# EAGLE library part 1554ИР24 (library std-logic-1554series)
АЕЯР.431200.182-12 ТУ 1554ИР24 - Восьмиразрядный двунаправленный сдвиговый регистр с параллельным вводом-выводом, последовательным вводом информации, асинхронным сбросом и тремя состояниями на выходе. Изготовитель: ОАО "ИНТЕГРАЛ", г. Минск, р. Беларусь. Технические условия (ТБМ): АЕЯР.431200.182-12 ТУ Технические условия (не ТБМ): АЕЯР.431200.093-03 ТУ
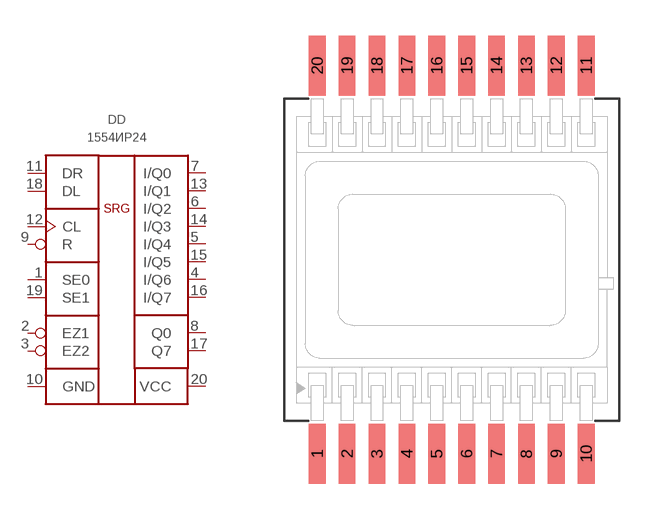
[diagram p39: symbol with the pads of 4153.20-6; footprint 4153.20-6]

Designator prefix DD

## 1554ИР24ТБМ  [4153.20-6]
1  SE0  in
2  EZ1  in
3  EZ2  in
4  I/Q6
5  I/Q4
6  I/Q2
7  I/Q0
8  Q0  out
9  R  in
10  GND  pwr
11  DR  in
12  CL  in
13  I/Q1
14  I/Q3
15  I/Q5
16  I/Q7
17  Q7  out
18  DL  in
19  SE1  in
20  VCC  pwr

## Footprint 4153.20-6 (pad centres in mm)
smd 0.7 x 2.5: 1 -5.625,-8.125; 2 -4.375,-8.125; 3 -3.125,-8.125; 4 -1.875,-8.125; 5 -0.625,-8.125; 6 0.625,-8.125; 7 1.875,-8.125; 8 3.125,-8.125; 9 4.375,-8.125; 10 5.625,-8.125; 11 5.625,8.125; 12 4.375,8.125; 13 3.125,8.125; 14 1.875,8.125; 15 0.625,8.125; 16 -0.625,8.125; 17 -1.875,8.125; 18 -3.125,8.125; 19 -4.375,8.125; 20 -5.625,8.125